# EAGLE library part LT1961 (library rfc)
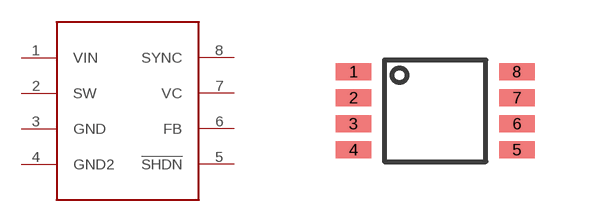
[diagram p5: symbol with the pads of MSOP8; footprint MSOP8]

Designator prefix -

## LT1961  [MSOP8]
1  VIN
2  SW
3  GND
4  GND2
5  !SHDN
6  FB
7  VC
8  SYNC

## Footprint MSOP8 (pad centres in mm)
smd 0.889 x 0.419: 1 -2.045,0.975; 2 -2.045,0.325; 3 -2.045,-0.325; 4 -2.045,-0.975; 5 2.045,-0.975; 6 2.045,-0.325; 7 2.045,0.325; 8 2.045,0.975